# Altium integrated library Integrated_Library1.IntLib: 7 symbols
Pins are listed as number, name and electrical type; pins without a type are passive.

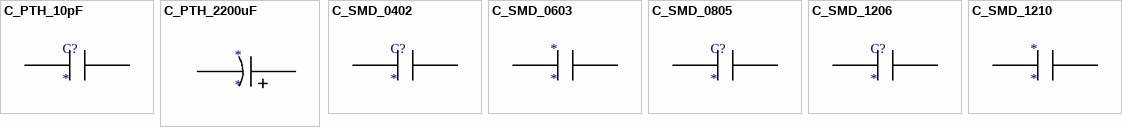
[diagram p0: symbols C_PTH_10pF to C_SMD_1210]

## C_PTH_10pF
designator C?
footprint C_PTH_10pF
pins: 1, 2

## C_PTH_2200uF
designator *
footprint C_PTH_2200uF
pins: 1, 2

## C_SMD_0402
designator C?
footprint C_SMD_0402
pins: 1, 2

## C_SMD_0603
designator *
footprint C_SMD_0603
pins: 1, 2

## C_SMD_0805
designator C?
footprint C_SMD_0805
pins: 1, 2

## C_SMD_1206
designator C?
footprint C_SMD_1206
pins: 1, 2

## C_SMD_1210
designator *
footprint C_SMD_1210
pins: 1, 2